# EAGLE library part SWITCH-SPDT (library audioint)
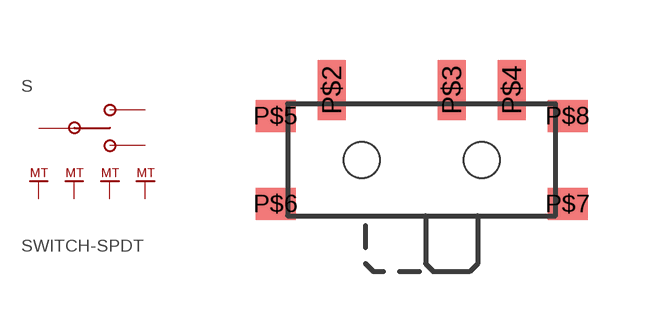
[diagram p20: symbol with the pads of SWITCH-SLIDE-SMT-SSSS811101; footprint SWITCH-SLIDE-SMT-SSSS811101]

Designator prefix S

## SWITCH-SPDTSSSS811101  [SWITCH-SLIDE-SMT-SSSS811101]
P$2  P$2
P$3  P$1
P$4  P$3
P$5  P$4
P$6  P$5
P$7  P$6
P$8  P$7

## Footprint SWITCH-SLIDE-SMT-SSSS811101 (pad centres in mm)
smd 0.7 x 1.5: P$2 -2.25,1.75; P$3 0.75,1.75; P$4 2.25,1.75
smd 1 x 0.8: P$5 -3.65,1.1; P$6 -3.65,-1.1; P$7 3.65,-1.1; P$8 3.65,1.1
hole 0.9 at -1.5,0
hole 0.9 at 1.5,0